# EAGLE library part 4DIG_7SEG_056 (library 7-seg-disp)
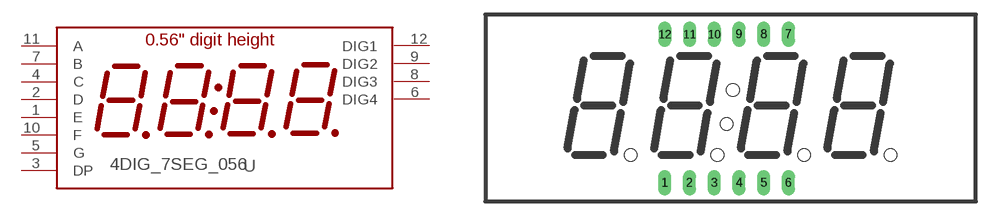
[diagram p1: symbol with the pads of 4DIG_7SEG_056; footprint 4DIG_7SEG_056]

Designator prefix -

## 4DIG_7SEG_056  [4DIG_7SEG_056]
1  E
2  D
3  DP
4  C
5  G
6  DIG4
7  B
8  DIG3
9  DIG2
10  F
11  A
12  DIG1

## Footprint 4DIG_7SEG_056 (pad centres in mm)
drill 0.8 long: 1 19.05,2.54; 2 21.59,2.54; 3 24.13,2.54; 4 26.67,2.54; 5 29.21,2.54; 6 31.75,2.54; 7 31.75,17.78; 8 29.21,17.78; 9 26.67,17.78; 10 24.13,17.78; 11 21.59,17.78; 12 19.05,17.78